# Altium schematic symbol library Misc.SchLib: 27 symbols
Pins are listed as number, name and electrical type; pins without a type are passive.

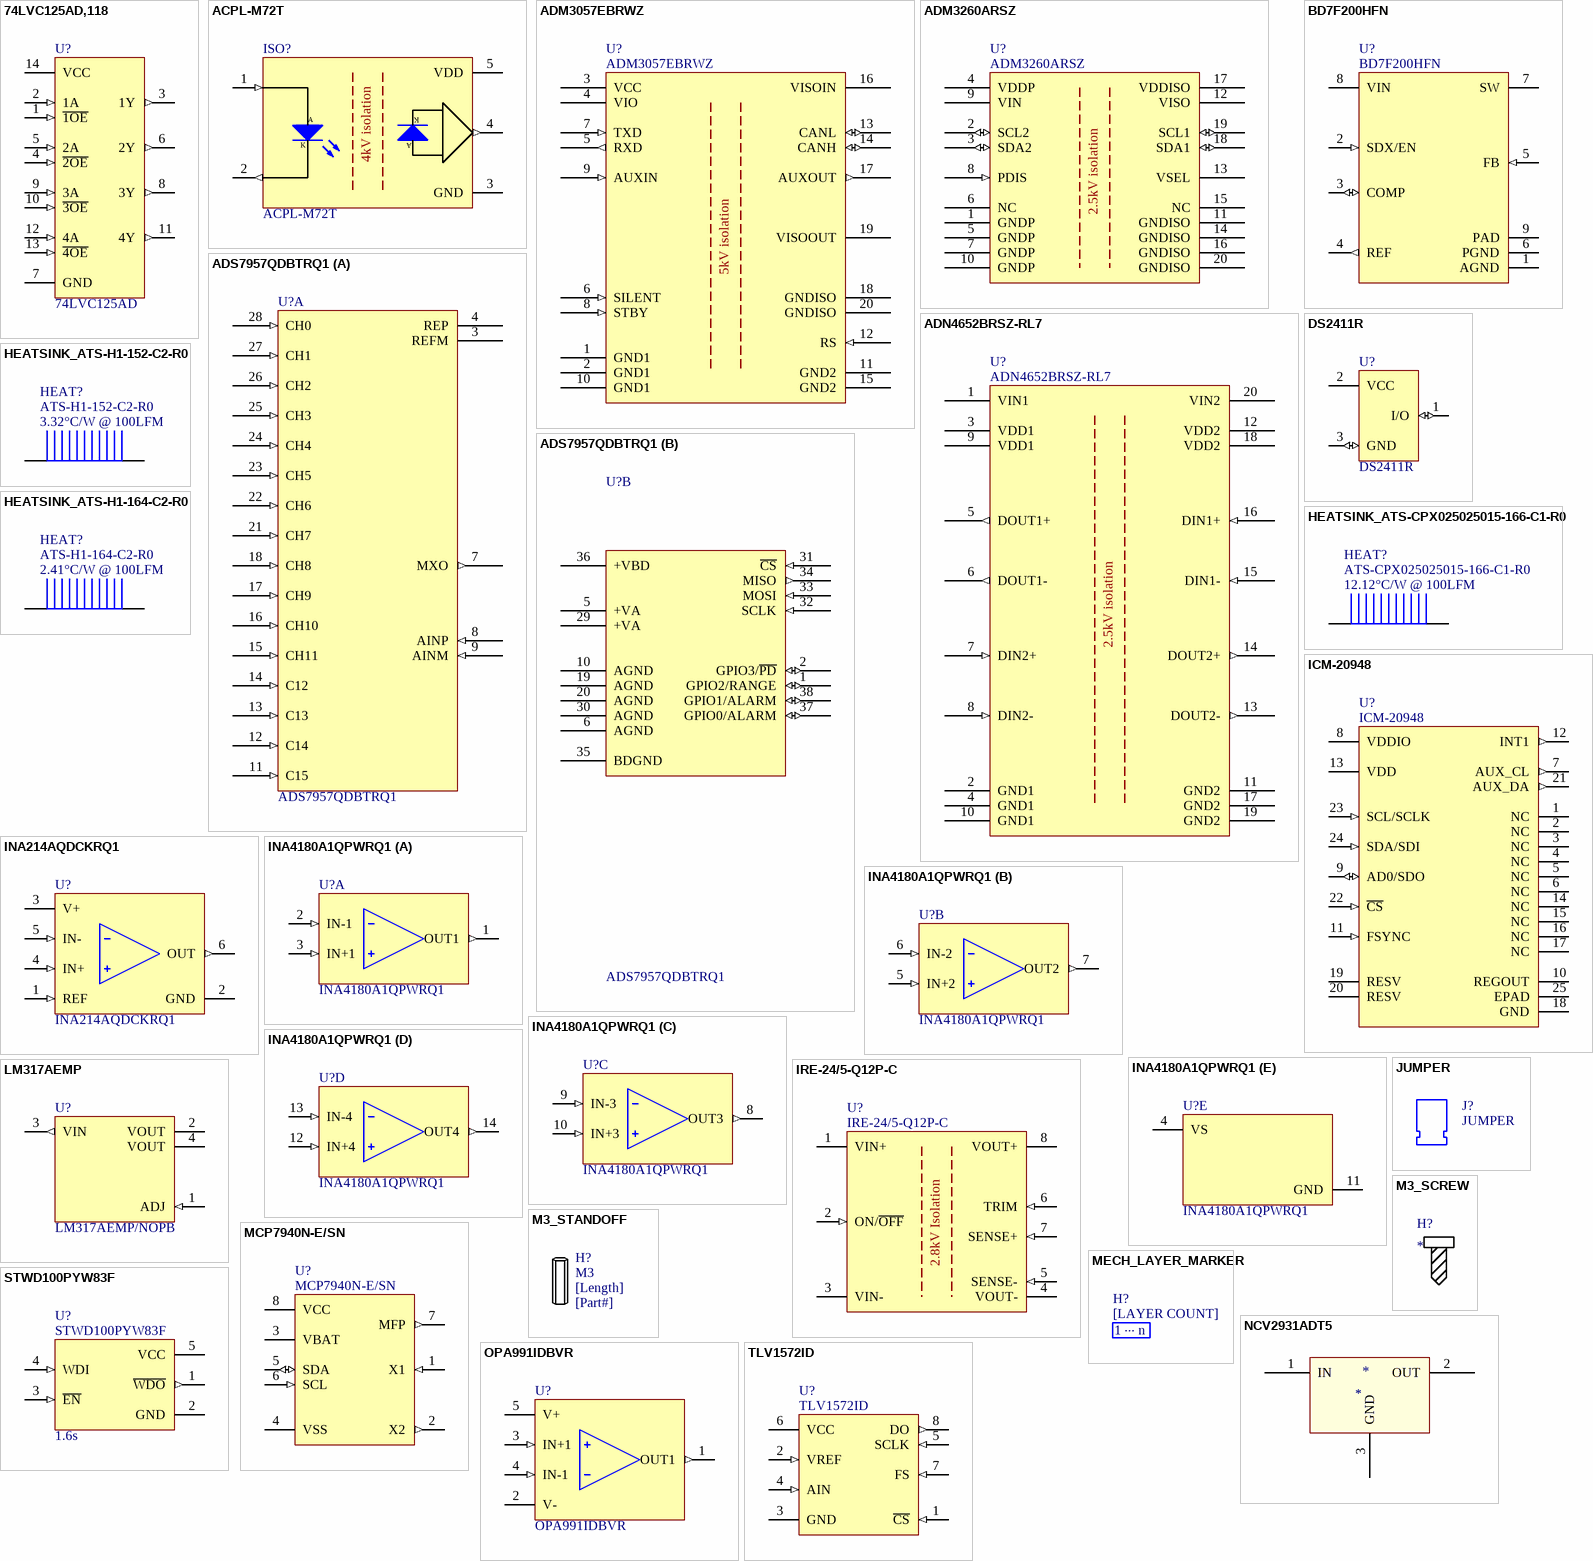
[diagram p0: symbols 74LVC125AD,118 to TLV1572ID]

## 74LVC125AD,118
designator U?, comment 74LVC125AD
Buffer, Non-Inverting 4 Element 1 Bit per Element 3-State Output 14-SO; Mfr: Nexperia; Number of Elements: 4; Voltage - Supply: 1.2V - 3.6V; Output Type: 3-state; Operating Temperature: -40C - 125C; ComponentLink1Description: Digikey; ComponentLink1URL: https://www.digikey.ca/en/products/detail/nexperia-usa-inc/74LVC125AD-118/946677; ComponentLink2Description: Datasheet; ComponentLink2URL: https://assets.nexperia.com/documents/data-sheet/74LVC125A.pdf; ComponentLink3Description: Mfr; ComponentLink3URL: https://www.nexperia.com/products/analog-logic-ics/logic/buffers-inverters-transceivers/buffers/74LVC125AD.html; ComponentLink4Description: Octopart; ComponentLink4URL: https://octopart.com/74lvc125ad%2C118-nexperia-78737785?r=sp
footprint SOIC-14_3.8MM
pins: 1 ~{1OE} (in), 2 1A (in), 3 1Y (out), 4 ~{2OE} (in), 5 2A (in), 6 2Y (out), 7 GND (power), 8 3Y (out), 9 3A (in), 10 ~{3OE} (in), 11 4Y (out), 12 4A (in), 13 ~{4OE} (in), 14 VCC (power)

## ACPL-M72T
designator ISO?
Logic Output Optoisolator Push-Pull, Totem Pole 4000Vrms 1 Channel 25kV/µs CMTI 5-SO; Mfr: Broadcom Limited; Number of channels: 1; Common Mode Transient: 25kV/us; Voltage - Forward: 1.5V; Current - Forward: 20mA; Voltage - Supply: 3V - 5.5V; Qualification: AEC-Q100; Voltage - Isolation: 4000Vrms; Output Topology: Push-Pull; Operating Temperature: -40C - 125C; Package: SOIC6 - 5 Leads; ComponentLink1Description: Digikey; ComponentLink1URL: https://www.digikey.ca/en/products/detail/broadcom-limited/ACPL-M72T-000E/2347227; ComponentLink2Description: Datasheet; ComponentLink2URL: https://docs.broadcom.com/doc/AV02-2180EN
footprint SOIC-5_4.4MM
pins: 1 ANODE (in), 2 CATHODE (out), 3 GND (power), 4 VOUT (out), 5 VDD (power)
text: A; K; 4kV isolation

## ADM3057EBRWZ
designator U?
1/1 Transceiver, Isolated CANbus 20-SOIC; Mfr: Analog Devices; Protocol: CAN; Data Rate: 12Mbps; Mode: Full Duplex; Voltage - Supply: 0.5V - 6V; Isolation: 5kV; Number of Drivers: 1/1; Operating Temperature: -40C - 105C; ComponentLink1Description: Digikey; ComponentLink1URL: https://www.digikey.ca/en/products/detail/analog-devices-inc/ADM3057EBRWZ/9806175; ComponentLink2Description: Datasheet; ComponentLink2URL: https://www.analog.com/media/en/technical-documentation/data-sheets/ADM3055E-3057E.pdf; ComponentLink3Description: Analog Devices; ComponentLink3URL: https://www.analog.com/en/products/adm3057e.html; ComponentLink4Description: Octopart; ComponentLink4URL: https://octopart.com/adm3057ebrwz-analog+devices-96773388?r=sp; Supplier 1: Mouser; Supplier Part Number 1: 584-ADM3057EBRWZ
footprint SOIC-20_7.5mm
pins: 1 GND1 (power), 2 GND1 (power), 3 VCC (power), 4 VIO (power), 5 RXD (out), 6 SILENT (in), 7 TXD (in), 8 STBY (in), 9 AUXIN (in), 10 GND1 (power), 11 GND2 (power), 12 RS (in), 13 CANL (io), 14 CANH (io), 15 GND2 (power), 16 VISOIN (power), 17 AUXOUT (out), 18 GNDISO (power), 19 VISOOUT (power), 20 GNDISO (power)
text: 5kV isolation

## ADM3260ARSZ
designator U?
I2C Digital Isolator 2500Vrms 2 Channel 25kV/µs CMTI 20-SSOP (0.209", 5.30mm Width); Mfr: Analog Devices; Channel Type: Bidirectionnal; Voltage - Isolation: 2.5kV; Voltage - Supply: 3V - 5.5V; Type: I2C; Operating Temperature: -40C - 105C
footprint TSSOP-20_5.3MM
pins: 1 GNDP (power), 2 SCL2 (io), 3 SDA2 (io), 4 VDDP (power), 5 GNDP (power), 6 NC, 7 GNDP (power), 8 PDIS (in), 9 VIN (power), 10 GNDP (power), 11 GNDISO (power), 12 VISO (power), 13 VSEL, 14 GNDISO (power), 15 NC, 16 GNDISO (power), 17 VDDISO (power), 18 SDA1 (io), 19 SCL1 (io), 20 GNDISO (power)
text: 2.5kV isolation

## ADN4652BRSZ-RL7
designator U?
Mfr: Analog Devices; Protocol: LVDS; Inputs - Side1 / Side2: 1/1; Channel Type: Unidirectional; Voltage - Isolation: 3750Vrms; Data Rate: 600Mbps; Voltage - Supply: 2.375V - 2.625V; Type: Magnetic Coupling; Operating Temperature: -40C - 125C; ComponentLink1Description: Digikey; ComponentLink1URL: https://www.digikey.com/en/products/detail/analog-devices-inc/ADN4652BRSZ-RL7/6624085; ComponentLink2Description: Datasheet; ComponentLink2URL: https://www.analog.com/media/en/technical-documentation/data-sheets/ADN4650-4651-4652.pdf; ComponentLink3Description: Analog Devices; ComponentLink3URL: https://www.analog.com/en/products/adn4652.html?doc=ADN4650-4651-4652.pdf; ComponentLink4Description: Octopart; ComponentLink4URL: https://octopart.com/adn4652brsz-rl7-analog+devices-77756952?r=sp; Supplier 1: Mouser; Supplier Part Number 1: 584-ADN4652BRSZ-RL7
footprint TSSOP-20_5.3MM
pins: 1 VIN1 (power), 2 GND1 (power), 3 VDD1 (power), 4 GND1 (power), 5 DOUT1+ (out), 6 DOUT1- (out), 7 DIN2+ (in), 8 DIN2- (in), 9 VDD1 (power), 10 GND1 (power), 11 GND2 (power), 12 VDD2 (power), 13 DOUT2- (out), 14 DOUT2+ (out), 15 DIN1- (in), 16 DIN1+ (in), 17 GND2 (power), 18 VDD2 (power), 19 GND2 (power), 20 VIN2 (power)
text: 2.5kV isolation

## ADS7957QDBTRQ1
designator U?
10 Bit Analog to Digital Converter 16 Input 1 SAR 38-TSSOP; Mfr: Texas Instruments; Number of Bits: 10; Number of Inputs: 16; Sampling Rate: 1M; Input Type: Single Ended; Supply Voltage - Analog (Min): 2.7V; Supply Voltage - Analog (Max): 5.25V; Supply Voltage - Digital (Min): 1.7V; Supply Voltage - Digital (Max): 5.25; Qualification: AEC-Q100; Part#: ADS7957QDBTRQ1; Architecture: SAR; Operating Temperature: -40C - 125C; ComponentLink1Description: Digikey; ComponentLink1URL: https://www.digikey.ca/en/products/detail/texas-instruments/ADS7957QDBTRQ1/4860369; ComponentLink2Description: Datasheet; ComponentLink2URL: https://www.ti.com/lit/ds/symlink/ads7957-q1.pdf; ComponentLink3Description: Texas Instruments; ComponentLink3URL: https://www.ti.com/product/ADS7957-Q1/part-details/ADS7957QDBTRQ1; ComponentLink4Description: Octopart; ComponentLink4URL: https://octopart.com/ads7957qdbtrq1-texas+instruments-43172431?r=sp; Supplier 1: Mouser; Supplier Part Number 1: 595-ADS7957QDBTRQ1
footprint TSSOP-38_4.4MM
part A pins: 3 REFM (power), 4 REP (power), 7 MXO (out), 8 AINP (in), 9 AINM (in), 11 C15 (in), 12 C14 (in), 13 C13 (in), 14 C12 (in), 15 CH11 (in), 16 CH10 (in), 17 CH9 (in), 18 CH8 (in), 21 CH7 (in), 22 CH6 (in), 23 CH5 (in), 24 CH4 (in), 25 CH3 (in), 26 CH2 (in), 27 CH1 (in), 28 CH0 (in)
part B pins: 1 GPIO2/RANGE (io), 2 GPIO3/~{PD} (io), 5 +VA (power), 6 AGND (power), 10 AGND (power), 19 AGND (power), 20 AGND (power), 29 +VA (power), 30 AGND (power), 31 ~{CS} (in), 32 SCLK (in), 33 MOSI (in), 34 MISO (out), 35 BDGND (power), 36 +VBD (power), 37 GPIO0/ALARM (io), 38 GPIO1/ALARM (io)

## BD7F200HFN
designator U?
Flyback Switching Regulator IC Positive, Isolation Capable Adjustable 0.78V 1 Output 2.2A (Switch) 8-PowerUDFN; Mfr: Rohm Semiconductor; Voltage - Input (min): 8V; Voltage - Input (max): 40V; Frequency - Switching: 400kHz; Operating Current: 2mA; Quiescent Current: 10uA; Reference Voltage: 780mV; Reference Voltage Accuracy: 1.5%; Ron: 0.5R; Voltage - Output (min): 0.78V; Voltage - Output (max): 40V; Current - Output: 2.2A; Operating Temperature: -40C - 125C; ComponentLink1Description: Digikey; ComponentLink1URL: https://www.digikey.ca/en/products/detail/rohm-semiconductor/BD7F200HFN-LBTR/6108886; ComponentLink2Description: Datasheet; ComponentLink2URL: https://fscdn.rohm.com/en/products/databook/datasheet/ic/power/isolated_converter/bd7f200hfn-lb-e.pdf; ComponentLink3Description: Rohm; ComponentLink3URL: https://www.rohm.com/products/power-management/dc-dc-converters-ics/bd7f200hfn-lb-product; ComponentLink4Description: Octopart; ComponentLink4URL: https://octopart.com/bd7f200hfn-lbtr-rohm-74599206?r=sp; Supplier 1: Mouser; Supplier Part Number 1: 755-BD7F200HFN-LBTR; Package: HSON-8
footprint HSON-8
pins: 1 AGND (power), 2 SDX/EN (in), 3 COMP (io), 4 REF (out), 5 FB (in), 6 PGND (power), 7 SW (power), 8 VIN (power), 9 PAD (power)

## DS2411R
designator U?
Silicon Serial Number SOT-23-3; Mfr: Analog Devices; Standyby Current: < 1µA; Serial Number: 48-bits
footprint SOT23-3
pins: 1 I/O (io), 2 VCC (power), 3 GND (io)

## HEATSINK_ATS-CPX025025015-166-C1-R0
designator HEAT?, comment ATS-CPX025025015-166-C1-R0  Thermal Resistance: 12.12°C/W @ 100LFM
Heatsink Aluminium; Mfr: Advanced Thermal Solutions Inc.; Hole Size: 3.175mm; Hole-to-hole: 42.42mm; Fin Height: 15mm; Length: 25mm; Width: 25mm; Material: Aluminium; ComponentLink1Description: Digikey; ComponentLink1URL: https://www.digikey.ca/en/products/detail/advanced-thermal-solutions-inc/ATS-CPX025025015-166-C1-R0/4753829; ComponentLink2Description: Mfr; ComponentLink2URL: https://www.qats.com/Search/HeatSink/2670.aspx; Supplier 1: Digikey; Supplier Part Number 1: ATS35911-ND
footprint ATS-CPX025025015-166-C1-R0
pins: 1, 2

## HEATSINK_ATS-H1-152-C2-R0
designator HEAT?, comment ATS-H1-152-C2-R0  Thermal Resistance: 3.32°C/W @ 100LFM
Heatsink Aluminium; Mfr: Advanced Thermal Solutions Inc.; Hole Size: 3mm; Hole-to-hole: 56,5685mm; Fin Height: 35mm; Length: 35; Width: 35; Material: Aluminium; ComponentLink1Description: Digikey; ComponentLink1URL: https://www.digikey.com/en/products/detail/advanced-thermal-solutions-inc/ATS-H1-152-C2-R0/4624447; Supplier 1: Digikey; Supplier Part Number 1: ATS36354-ND; ComponentLink2Description: Mfr; ComponentLink2URL: https://www.qats.com/Online-PushPin/ATS-H1-152-C2-R0
pins: 1, 2

## HEATSINK_ATS-H1-164-C2-R0
designator HEAT?, comment ATS-H1-164-C2-R0  Thermal Resistance: 2.41°C/W @ 100LFM
Heatsink Aluminium; Mfr: Advanced Thermal Solutions Inc.; Hole Size: 3mm; Hole-to-hole: 70.71mm; Fin Height: 35mm; Length: 45mm; Width: 45mm; Material: Aluminium; ComponentLink1Description: Digikey; ComponentLink1URL: https://www.digikey.com/en/products/detail/advanced-thermal-solutions-inc/ATS-H1-164-C2-R0/4624459; Supplier 1: Digikey; Supplier Part Number 1: ATS36354-ND; ComponentLink2Description: Mfr; ComponentLink2URL: https://www.qats.com/Online-PushPin/ATS-H1-164-C2-R0
footprint ATS-H1-164-C2-R0
pins: 1, 2

## ICM-20948
designator U?
Accelerometer, Gyroscope, Magnetometer, 9 Axis Sensor I2C, SPI Output; Mfr: TDK InvenSense; Supply Voltage - Core: 1.8V - 3.3V; Supply Voltage - IO: 1.8V; Operating Temperature: -40C - 85C; Output Type: I2C, SPI; ComponentLink1Description: Digikey; ComponentLink1URL: https://www.digikey.ca/en/products/detail/tdk-invensense/icm-20948/6623535; ComponentLink2Description: Datasheet; ComponentLink2URL: https://invensense.tdk.com/wp-content/uploads/2016/06/DS-000189-ICM-20948-v1.3.pdf?ref_disty=digikey; ComponentLink3Description: Mfr; ComponentLink3URL: https://invensense.tdk.com/products/motion-tracking/9-axis/icm-20948/; ComponentLink4Description: Octopart; ComponentLink4URL: https://octopart.com/icm-20948-invensense-73011870?r=sp; Supplier 1: Mouser; Supplier Part Number 1: 410-ICM-20948
footprint QFN-24_3X3 (QFN-32 (3x3))
pins: 1 NC, 2 NC, 3 NC, 4 NC, 5 NC, 6 NC, 7 AUX_CL (out), 8 VDDIO (power), 9 AD0/SDO (io), 10 REGOUT (power), 11 FSYNC (in), 12 INT1 (out), 13 VDD (power), 14 NC, 15 NC, 16 NC, 17 NC, 18 GND (power), 19 RESV, 20 RESV, 21 AUX_DA (out), 22 ~{CS} (in), 23 SCL/SCLK (in), 24 SDA/SDI (in), 25 EPAD

## INA214AQDCKRQ1
designator U?
Current Sense Amplifier 1 Circuit Single-Ended SC-70-6; Mfr: Texas Instruments; Voltage - Supply (Min): 2.7V; Voltage - Supply (Max): 26V; Gain Bandwidth Product: 30kHz; Current - Input Bias: 28µA; Voltage - Input Offset: 1µV; Gain: 100V/V; ComponentLink1Description: Digikey; ComponentLink1URL: https://www.digikey.com/en/products/detail/texas-instruments/INA214AQDCKRQ1/2361055; ComponentLink2Description: Datasheet; ComponentLink2URL: https://www.ti.com/lit/ds/symlink/ina213-q1.pdf?HQS=dis-dk-null-digikeymode-dsf-pf-null-wwe&ts=1706525130563&ref_url=https%253A%252F%252Fwww.ti.com%252Fgeneral%252Fdocs%252Fsuppproductinfo.tsp%253FdistId%253D10%2526gotoUrl%253Dhttps%253A%252F%252Fwww.ti.com%252Flit%252Fgpn%252Fina213-q1; ComponentLink3Description: Octopart; ComponentLink3URL: https://octopart.com/ina214aqdckrq1-texas+instruments-18804705?r=sp; ComponentLink4Description: Texas Instruments; ComponentLink4URL: https://www.ti.com/product/INA214-Q1/part-details/INA214AQDCKRQ1; Operating Temperature: -40C - 125C; Ratings: AEC-Q100; Voltage - Analog Input (Max): 26V; Supplier 1: Mouser
footprint SC-70-6 (SOT-363)
pins: 1 REF (in), 2 GND (power), 3 V+ (power), 4 IN+ (in), 5 IN- (in), 6 OUT (out)

## INA4180A1QPWRQ1
designator U?
Current Sense Amplifier 4 Circuit Differential, Rail-to-Rail 14-TSSOP; Mfr: Texas Instruments; Voltage - Supply (Min): 2.7V; Voltage - Supply (Max): 5.5V; Gain Bandwidth Product: 350kHz; Current - Input Bias: -100nA; Voltage - Input Offset: 100uV; Current - Output / Channel: 8mA; Gain: 20V/V; Voltage - Analog Input (Max): 26V; ComponentLink1Description: Digikey; ComponentLink1URL: https://www.digikey.com/en/products/detail/texas-instruments/INA4180A1QPWRQ1/9654220; ComponentLink2Description: Datasheet; ComponentLink2URL: https://www.ti.com/lit/ds/symlink/ina4180-q1.pdf; ComponentLink3Description: Octopart; ComponentLink3URL: https://octopart.com/ina4180a1qpwrq1-texas+instruments-94354202?r=sp; ComponentLink4Description: Texas Instruments; ComponentLink4URL: https://www.ti.com/product/INA4180-Q1/part-details/INA4180A1QPWRQ1; Operating Temperature: -40C - 125C; Ratings: AEC-Q100; Supplier 1: Mouser; Supplier Part Number 1: 595-INA4180A1QPWRQ1
footprint TSSOP-14_4.4MM
part A pins: 1 OUT1 (out), 2 IN-1 (in), 3 IN+1 (in)
part B pins: 5 IN+2 (in), 6 IN-2 (in), 7 OUT2 (out)
part C pins: 8 OUT3 (out), 9 IN-3 (in), 10 IN+3 (in)
part D pins: 12 IN+4 (in), 13 IN-4 (in), 14 OUT4 (out)
part E pins: 4 VS (power), 11 GND (power)

## IRE-24/5-Q12P-C
designator U?
Isolated DC/DC Converters - Through Hole 9V-36VIN 24VOUT 120W; Mfr: Murata; Voltage - Output: 24V; Current - Output: 5A; Voltage - Input (Min): 9V; Voltage - Input (Max): 36V; Isolation Voltage: 2.828kV; Switching Frequency: 240kHz; Output Power: 120W; Operating Temperature: -40C - 85C; ComponentLink1Description: Mouser; ComponentLink1URL: https://www.mouser.ca/ProductDetail/Murata-Power-Solutions/IRE-24-5-Q12P-C?qs=xZ%2FP%252Ba9zWqZkiEXUCSXVgg%3D%3D; ComponentLink2Description: Murata; ComponentLink2URL: https://www.murata.com/en-us/products/productdetail?partno=IRE-24%2F5-Q12P-C; ComponentLink3Description: Datasheet; ComponentLink3URL: https://www.murata.com/products/productdata/8807029112862/ire-q12.pdf?1655388012000; ComponentLink4Description: Octopart; ComponentLink4URL: https://octopart.com/ire-24%2F5-q12p-c-murata+power+solutions-107236523?r=sp; Supplier 1: Mouser; Supplier Part Number 1: 580-IRE-24/5-Q12P-C
footprint IRE-Q12
pins: 1 VIN+ (power), 2 ON/~{OFF} (in), 3 VIN- (power), 4 VOUT- (power), 5 SENSE- (in), 6 TRIM (in), 7 SENSE+ (in), 8 VOUT+ (power)
text: 2.8kV Isolation

## JUMPER
designator J?

## LM317AEMP
designator U?, comment LM317AEMP/NOPB
Linear Voltage Regulator IC Positive Adjustable 1 Output 1.5A SOT-223-4; Mfr: Texas Instruments; Voltage - Input (Min): 4.25V; Voltage - Input (Max): 40V; Voltage - Output (Min): 1.25V; Voltage - Output (Max): 37V; Current - Output: 1.5A; Operating Temperature: -30C - 125C; ComponentLink1Description: Digikey; ComponentLink1URL: https://www.digikey.ca/en/products/detail/texas-instruments/LM317AEMP-NOPB/363903; ComponentLink2Description: Datasheet; ComponentLink2URL: https://www.ti.com/lit/ds/symlink/lm317a.pdf; ComponentLink3Description: Texas Instruments; ComponentLink3URL: https://www.ti.com/product/LM317A; ComponentLink4Description: Octopart; ComponentLink4URL: https://octopart.com/lm317aemp%2Fnopb-texas+instruments-24813634?r=sp; Supplier 1: Mouser; Supplier Part Number 1: 926-LM317AEMP/NOPB
footprint SOT223-4
pins: 1 ADJ (in), 2 VOUT (power), 3 VIN (out), 4 VOUT (power)

## M3_SCREW
designator H?

## M3_STANDOFF
designator H?, comment [Part#]  Length: [Length]  Thread Size: M3
Material: *

## MCP7940N-E/SN
designator U?
Real Time Clock (RTC) IC Clock/Calendar 64B I2C, 2-Wire Serial 8-SOIC (0.154", 3.90mm Width); Mfr: Microchip; Qualification: AEC-Q100; Voltage - Suply: 1.8V - 5.5V; Voltage - Battery: 1.3V - 5.5V; Clock Speed: 32.768kHz; Operating Temperature: -40C - 125C; ComponentLink1Description: Digikey; ComponentLink1URL: https://www.digikey.ca/en/products/detail/microchip-technology/MCP7940N-E-SN/3872278; ComponentLink2Description: Datasheet; ComponentLink2URL: https://ww1.microchip.com/downloads/aemDocuments/documents/MPD/ProductDocuments/DataSheets/MCP7940N-Battery-Backed-I2C-RTCC-with-SRAM-20005010J.pdf; ComponentLink3Description: Mfr; ComponentLink3URL: https://www.microchip.com/en-us/product/MCP7940N; ComponentLink4Description: Octopart; ComponentLink4URL: https://octopart.com/mcp7940n-e%2Fsn-microchip-24995176?r=sp
footprint SOIC-8_3.8mm
pins: 1 X1 (in), 2 X2 (out), 3 VBAT (power), 4 VSS (power), 5 SDA (io), 6 SCL (in), 7 MFP (out), 8 VCC (power)

## MECH_LAYER_MARKER
designator H?, comment [LAYER COUNT]  (no BOM)
footprint LAYERS_2 (Copper marking indicating layer ordering)
footprint LAYERS_4 (Copper marking indicating layer ordering)
footprint LAYERS_6 (Copper marking indicating layer ordering)
footprint LAYERS_8 (Copper marking indicating layer ordering)
footprint LAYERS_10 (Copper marking indicating layer ordering)
footprint LAYERS_12 (Copper marking indicating layer ordering)
footprint LAYERS_14 (Copper marking indicating layer ordering)
footprint LAYERS_16 (Copper marking indicating layer ordering)
text: 1; ...; n

## NCV2931ADT5
designator *
5.0 V LDO
footprint DPAK
pins: 1 IN, 2 OUT, 3 GND

## OPA991IDBVR
designator U?
General Purpose Amplifier 1 Circuit Rail-to-Rail SOT-23-5; Mfr: Texas Instruments; Voltage - Supply (Min): 2.7V; Voltage - Supply (Max): 40V; Voltage - Input Offset: 125µV; Current - Input Bias: 10pA; Slew Rate: 21V/µs; Current - Output: 75mA; Part#: OPA991IDBVR; Output Type: Rail-to-Rail; Operating Temperature: -40C - 125C; ComponentLink1Description: Digikey; ComponentLink1URL: https://www.digikey.ca/en/products/detail/texas-instruments/OPA991IDBVR/13174045; ComponentLink2Description: Datasheet; ComponentLink2URL: https://www.ti.com/lit/ds/symlink/opa991.pdf; ComponentLink3Description: Texas Instruments; ComponentLink3URL: https://www.ti.com/product/OPA991/part-details/OPA991IDBVR; ComponentLink4Description: Octopart; ComponentLink4URL: https://octopart.com/search?q=OPA991IDBVR&autosugg_idx=0&currency=USD&specs=0; Supplier 1: Mouser; Supplier Part Number 1: 595-OPA991IDBVR
footprint SOT23-5 (SOT143-4 as used in SP0503BAHTG)
pins: 1 OUT1 (out), 2 V- (power), 3 IN+1 (in), 4 IN-1 (in), 5 V+ (power)

## STWD100PYW83F
designator U?  Reset Timeout: 1.6s
WATCHDOG CIRCUIT / IC SUPERVISOR 1 CHANNEL SOT23-5; Mfr: ST; Qualification: AEC-Q100; ComponentLink1Description: Digikey; ComponentLink1URL: https://www.digikey.ca/en/products/detail/stmicroelectronics/STWD100PYW83F/3711383; ComponentLink2Description: Datasheet; ComponentLink2URL: https://www.st.com/content/ccc/resource/technical/document/datasheet/06/6a/b3/83/9a/c7/4f/22/CD00176077.pdf/files/CD00176077.pdf/jcr:content/translations/en.CD00176077.pdf; Supplier 1: Mouser; Supplier Part Number 1: 511-STWD100PYW83F
footprint SOT23-5 (SOT143-4 as used in SP0503BAHTG)
pins: 1 ~{WDO} (out), 2 GND (power), 3 ~{EN} (in), 4 WDI (in), 5 VCC (power)

## TLV1572ID
designator U?
Mfr: Texas Instruments; Number of Bits: 10; Number of Inputs: 1; Architecture: SAR; Voltage - Supply (Analog): 2.7V - 5.5V; ComponentLink1Description: Digikey; ComponentLink1URL: https://www.digikey.ca/en/products/detail/texas-instruments/TLV1572ID/277528; ComponentLink2Description: Datasheet; ComponentLink2URL: https://www.ti.com/lit/ds/symlink/tlv1572.pdf?HQS=dis-dk-null-digikeymode-dsf-pf-null-wwe&ts=1706610861795&ref_url=https%253A%252F%252Fwww.ti.com%252Fgeneral%252Fdocs%252Fsuppproductinfo.tsp%253FdistId%253D10%2526gotoUrl%253Dhttps%253A%252F%252Fwww.ti.com%252Flit%252Fgpn%252Ftlv1572; ComponentLink3Description: Texas Instruments; ComponentLink3URL: https://www.ti.com/product/TLV1572; Voltage - Supply (Digital): 2.7V - 5.5V; Operating Temperature: -30C - 85C
footprint SOIC-8_3.8mm
pins: 1 ~{CS} (in), 2 VREF (in), 3 GND (power), 4 AIN (in), 5 SCLK (in), 6 VCC (power), 7 FS (in), 8 DO (out)

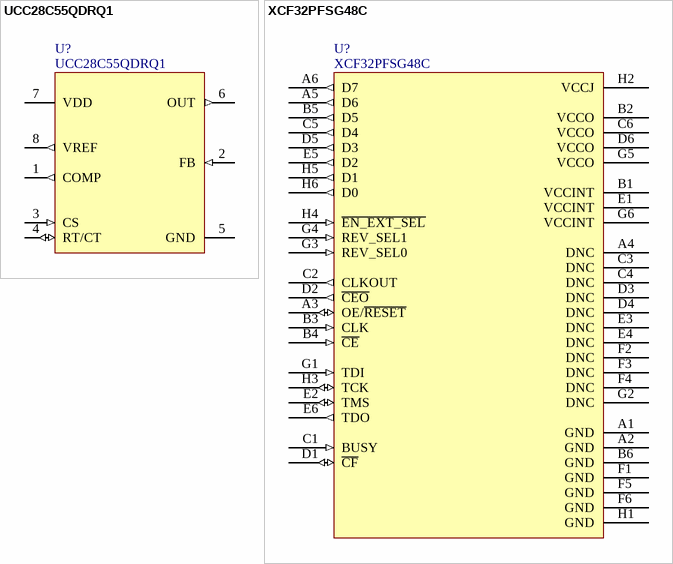
[diagram p1: symbols UCC28C55QDRQ1 to XCF32PFSG48C]

## UCC28C55QDRQ1
designator U?
Buck, Boost, Flyback, Forward Converter, SEPIC Regulator Positive Output Step-Up, Step-Down, Step-Up/Step-Down DC-DC Controller IC 8-SOIC; Mfr: Texas Instruments; Voltage  - Supply: 28V; Frequency - Switching: 1MHz; Duty Cycle (max): 50%; Qualification: AEC-Q100; Output Type: Transistor Driver; Operating Temperature: -40C - 150C; ComponentLink1Description: Digikey; ComponentLink1URL: https://www.digikey.ca/en/products/detail/texas-instruments/UCC28C55QDRQ1/18111279; ComponentLink2Description: Datasheet; ComponentLink2URL: https://www.ti.com/lit/ds/symlink/ucc28c51-q1.pdf?ts=1694638795666; ComponentLink3Description: Texas Instruments; ComponentLink3URL: https://www.ti.com/product/UCC28C55-Q1; ComponentLink4Description: Octopart; ComponentLink4URL: https://octopart.com/ucc28c55qdrq1-texas+instruments-134463860?r=sp; Supplier 1: Digikey; Supplier Part Number 1: 296-UCC28C55QDRQ1CT-ND
footprint SOIC-8_3.8mm
pins: 1 COMP (out), 2 FB (in), 3 CS (in), 4 RT/CT (io), 5 GND (power), 6 OUT (out), 7 VDD (power), 8 VREF (out)

## XCF32PFSG48C
designator U?
IC PROM SRL/PAR 1.8V 32M 48CSBGA; Mfr: Xilinx; Memory Size: 32Mb; Voltage - Suply: 1.65V - 2V; Part#: XCF32PFSG48C; Operating Temperature: -40C - 85C; ComponentLink1Description: Digikey; ComponentLink1URL: https://www.digikey.ca/en/products/detail/amd/XCF32PFSG48C/966638; ComponentLink2Description: Octopart; ComponentLink2URL: https://octopart.com/xcf32pfsg48c-xilinx-429660
footprint TFBGA-48_0.8MM_8X9
pins: A1 GND (power), A2 GND (power), A3 OE/~{RESET} (io), A4 DNC, A5 D6 (out), A6 D7 (out), B1 VCCINT (power), B2 VCCO (power), B3 CLK (in), B4 ~{CE} (in), B5 D5 (out), B6 GND (power), C1 BUSY (in), C2 CLKOUT (out), C3 DNC, C4 DNC, C5 D4 (out), C6 VCCO (power), D1 ~{CF} (io), D2 ~{CEO} (out), D3 DNC, D4 DNC, D5 D3 (out), D6 VCCO (power), E1 VCCINT (power), E2 TMS (io), E3 DNC, E4 DNC, E5 D2 (out), E6 TDO (out), F1 GND (power), F2 DNC, F3 DNC, F4 DNC, F5 GND (power), F6 GND (power), G1 TDI (in), G2 DNC, G3 REV_SEL0 (in), G4 REV_SEL1 (in), G5 VCCO (power), G6 VCCINT (power), H1 GND (power), H2 VCCJ (power), H3 TCK (io), H4 ~{EN_EXT_SEL} (in), H5 D1 (out), H6 D0 (out)